# Altium integrated library selector.IntLib: 1 symbol
Pins are listed as number, name and electrical type; pins without a type are passive.

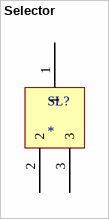
[diagram p0: symbol Selector]

## Selector
designator SL?
Selector
footprint selector
pins: 1, 2, 3